# Altium schematic symbol library Passives.SchLib: 73 symbols
Pins are listed as number, name and electrical type; pins without a type are passive.

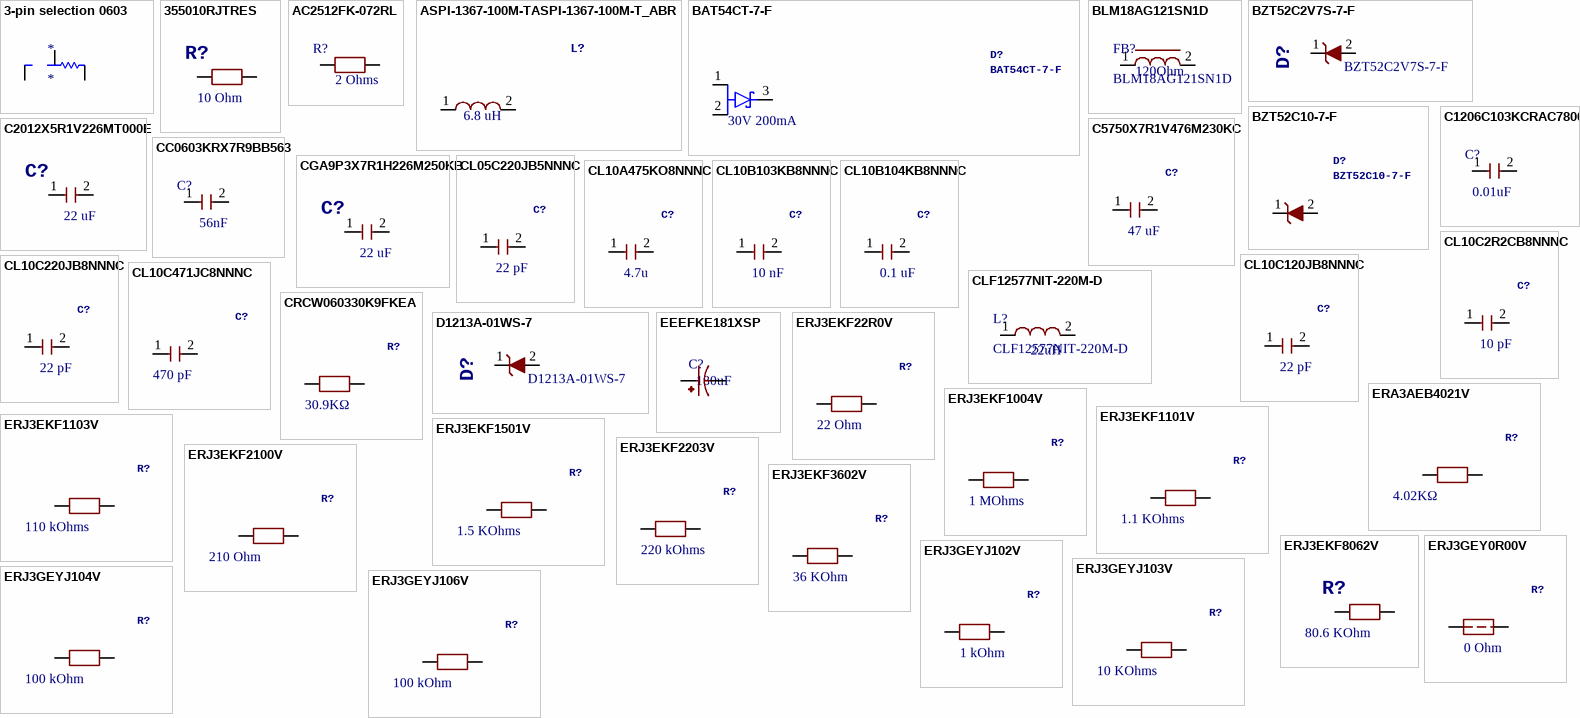
[diagram p0: symbols 3-pin selection 0603 to ERJ3GEYJ106V]

## 3-pin selection 0603
designator *
3-pin selection 0603
footprint 3-PIN SELECTION CIRCUIT
pins: 1, 2, 3

## 355010RJTRES
designator R?  value 10 Ohm  (hidden comment: 355010RJTRES)
Res 10Ohm 5W 4320; LibraryName: 2022-07-25_14-25-05_Library; PartNumber: 355010RJT; SupplierPartNumber: 355010RJT-ND; SuppliersPartNumber: *; Package: 4320; Link: https://www.digikey.ca/en/products/detail/te-connectivity-passive-product/355010RJT/9927238
footprint RES_4320
pins: 1, 2

## AC2512FK-072RL
designator R?  value 2 Ohms  (hidden comment: AC2512FK-072RL)
Res 2Ohms 1W 2512; Link: https://www.mouser.ca/ProductDetail/YAGEO/AC2512FK-072RL?qs=tggtontpCXMQxwZ82qzu9Q%3D%3D; Package: 2512; PartNumber: AC2512FK-072RL; SupplierPartNumber: 603-AC2512FK-072RL; SuppliersPartNumber: C728171
footprint RES_2512
pins: 1, 2

## ASPI-1367-100M-TASPI-1367-100M-T_ABR
designator L?, comment value 6.8 uH  (hidden comment: ASPI-1367-6R8M-T)
Ind 6.8uH; Mfr_Name: Abracon; GateName_1: A; SymbolName_1: ASPI-1367-100M-T; DeviceName: ASPI-1367-100M-T_ABR; LibraryName: 2022-08-03_18-57-08_Library; DeviceSetName: ASPI-1367-100M-T; Copyright: Copyright (C) 2022 Ultra Librarian. All rights reserved.; Manufacturer_Part_Number: ASPI-1367-100M-T; Link: https://www.digikey.ca/en/products/detail/abracon-llc/ASPI-1367-6R8M-T/2343319?s=N4IgTCBcDaIIIGUAKBJAtARgMwDYDsaOASgBwCyaAKiALoC%2BQA; Package: 5450; PartNumber: ASPI-1367-6R8M-T; SupplierPartNumber: ASPI-1367-6R8M-TCT-ND; SuppliersPartNumber: C187379
footprint IND_5450
pins: 1, 2

## BAT54CT-7-F
designator D?  value 30V 200mA
Diode Schottky 30V 200mA; Manufacturer_Name: Diodes Inc.; GateName_1: G$1; SymbolName_1: BAT54CT-7-F; LibraryName: BAT54CT-7-F; DeviceSetName: BAT54CT-7-F; Manufacturer_Part_Number: BAT54CT-7-F; Mouser_Part_Number: 621-BAT54CT-F; Mouser_Price-Stock: https://www.mouser.co.uk/ProductDetail/Diodes-Incorporated/BAT54CT-7-F?qs=eZWE0vXsHCE8vHna85fvBQ%3D%3D; Arrow_Part_Number: BAT54CT-7-F; Arrow_Price-Stock: https://www.arrow.com/en/products/bat54ct-7-f/diodes-incorporated?region=nac; Height: 0.9mm; Link: https://www.digikey.ca/en/products/detail/diodes-incorporated/BAT54CT-7-F/717703; Package: SOT-523; PartNumber: BAT54CT-7-F; SupplierPartNumber: BAT54CT-FDITR-ND; SuppliersPartNumber: C134407
footprint DIODE_SOT-523
pins: 1 A_1, 2 A_2, 3 K

## BLM18AG121SN1D
designator FB?  value 120Ohm
Ferrite Bead 120Ohms@100MHz 0603; Manufacturer: Murata; Package: 0603; PartNumber: BLM18AG121SN1D; SupplierNumber: 490-1011-2-ND; Link: https://www.digikey.ca/en/products/detail/murata-electronics/BLM18AG121SN1D/584222?s=N4IgTCBcDaIEIBkCyBGAHAQQOIrCgygHIoAiIAugL5A; SuppliersPartNumber: C76892
footprint FB_0603
pins: 1 (oc), 2 (oc)

## BZT52C2V7S-7-F
designator D?
Diode Zener 2V7; Manufacturer: Diodes Inc; Value: TVS 2V7; Link: https://www.digikey.ca/en/products/detail/diodes-incorporated/BZT52C2V7S-7-F/739746; Package: SOD-323; PartNumber: BZT52C2V7S-7-F; SupplierPartNumber: BZT52C2V7S-FDITR-ND; SuppliersPartNumber: C260926
footprint DIODE_DO-214AC
pins: 1, 2

## BZT52C10-7-F
designator D?
Diode Zener 10V 370mW; Manufacturer_Name: Diodes Inc.; SymbolName_1: BZT52C10-7-F; LibraryName: BZT52C10-7-F; DeviceSetName: BZT52C10-7-F; Manufacturer_Part_Number: BZT52C10-7-F; Mouser_Part_Number: 621-BZT52C10-F; Mouser_Price-Stock: https://www.mouser.co.uk/ProductDetail/Diodes-Incorporated/BZT52C10-7-F?qs=%2F0USrAtie8G0fxvqWmtHrQ%3D%3D; Link: https://www.digikey.ca/en/products/detail/diodes-incorporated/BZT52C10-7-F/717726; Value: 10V 370mW; Package: SOD-123; PartNumber: BZT52C10-7-F; SupplierPartNumber: BZT52C10-FDITR-ND; SuppliersPartNumber: C155227
footprint DIODE_SOD-123
pins: 1, 2

## C1206C103KCRAC7800
designator C?  value 0.01uF  (hidden comment: C1206C103KCRAC7800)
Cap Ceramic 0.01uF 500V 1206; MF: KEMET; MP: C1206C103KCRACTU; SnapEDA_Link: https://www.snapeda.com/parts/C1206C103KCRACTU/KEMET/view-part/1758860/?ref=snap; Availability: Unavailable; Price: None; Link: https://www.digikey.ca/en/products/detail/kemet/C1206C103KCRAC7800/721283; Package: 1206; PartNumber: C1206C103KCRAC7800; SupplierPartNumber: 399-C1206C103KCRAC7800TR-ND; SuppliersPartNumber: C561840
footprint CAP_1206
pins: 1, 2

## C2012X5R1V226MT000E
designator C?  value 22 uF  (hidden comment: C2012X5R1V226MT000E)
Cap Ceramic 22uF 50V 0805; Manufacturer_Part_Number: C2012X5R1V226MT000E; Link: https://www.digikey.ca/en/products/detail/tdk-corporation/C2012X5R1V226M125AC/3951664?s=N4IgTCBcDaIMJgAwEYwA0CsAlZA1MYAbALIAqiFAoiALoC%2BQA; Package: 0805; PartNumber: C2012X5R1V226MT000E; SupplierPartNumber: 445-14428-2-ND; SuppliersPartNumber: C338080
footprint CAP_0805
pins: 1, 2

## C5750X7R1V476M230KC
designator C?  value 47 uF  (hidden comment: C5750X7R1V476M230KC)
Cap Ceramic 47uF 35V 2220; Manufacturer_Name: TDK; GateName_1: G$1; SymbolName_1: C5750X7R1V476M230KC; LibraryName: C5750X7R1V476M230KC; DeviceSetName: C5750X7R1V476M230KC; Manufacturer_Part_Number: C5750X7R1V476M230KC; Mouser_Part_Number: 810-C5750X7R1V476M23; Mouser_Price-Stock: https://www.mouser.co.uk/ProductDetail/TDK/C5750X7R1V476M230KC?qs=rSMjJ%252B1ewcSIfs95ZgB3Sw%3D%3D; Height: 3.1mm; Link: https://www.digikey.ca/en/products/detail/tdk-corporation/C5750X7R1V476M230KC/15930210; Package: 2220; PartNumber: C5750X7R1V476M230KC; SupplierNumber: 445-C5750X7R1V476M230KCTR-ND; SuppliersPartNumber: *
footprint CAP_2220
pins: 1, 2

## CC0603KRX7R9BB563
designator C?  value 56nF  (hidden comment: CC0603KRX7R9BB563)
Cap Ceramic 56nF 16V 0402; Manufacturer: YAGEO; Package: 0603; Link: https://www.digikey.ca/en/products/detail/yageo/CC0603KRX7R9BB563/5883809?s=N4IgTCBcDaIMJwAwDZEGYDSAlAGgdiwE4AhYgVmTRAF0BfIA; PartNumber: CC0603KRX7R9BB563; SupplierPartNumber: 311-4100-2-ND; SuppliersPartNumber: C282072
footprint RES_0603
pins: 1, 2

## CGA9P3X7R1H226M250KB
designator C?  value 22 uF  (hidden comment: CGA9P3X7R1H226M250KB)
Cap Ceramic 22uF 50V 2220; Manufacturer_Part_Number: CGA9P3X7R1H226M250KB; Link: https://www.digikey.ca/en/products/detail/tdk-corporation/CGA9P3X7R1H226M250KB/10240627; Package: 2220; PartNumber: CGA9P3X7R1H226M250KB; SupplierPartNumber: 445-181650-2-ND; SuppliersPartNumber: C2180156
footprint CAP_2220
pins: 1, 2

## CL05C220JB5NNNC
designator C?  value 22 pF  (hidden comment: CL05C220JB5NNNC)
Cap Ceramic 22pF 50V 0402; Manufacturer_Name: Samsung Electro-Mechanics; Link: https://www.digikey.ca/en/products/detail/samsung-electro-mechanics/CL05C220JB5NNNC/3886774; Package: 0402; PartNumber: CL05C220JB5NNNC; SupplierPartNumber: 1276-1116-2-ND; SuppliersPartNumber: C70464
footprint CAP_0402
pins: 1, 2

## CL10A475KO8NNNC
designator C?  value 4.7u  (hidden comment: CL10A475KO8NNNC)
Cap Ceramic 4.7uF 16V 0603; Manufacturer_Name: Samsung Electro-Mechanics; Link: https://www.digikey.ca/en/products/detail/samsung-electro-mechanics/CL10A475KO8NNNC/3887442?s=N4IgTCBcDaIMIBkCMAGAggFgOwFYDSA8gBwByZcIAugL5A; Package: 0603; PartNumber: CL10A475KO8NNNC; SupplierNumber: 1276-1784-2-ND; SuppliersPartNumber: C19666
footprint CAP_0603
pins: 1, 2

## CL10B103KB8NNNC
designator C?  value 10 nF  (hidden comment: CL10B103KB8NNNC)
Cap Ceramic 10nF 50V 0603; Manufacturer_Name: Samsung Electro-Mechanics; Link: https://www.digikey.ca/en/products/detail/samsung-electro-mechanics/CL10B103KB8NNNC/3886667?s=N4IgTCBcDaIMIBkCMAGAQqgzAaTQDgDki4QBdAXyA; Package: 0603; PartNumber: CL10B103KB8NNNC; SupplierNumber: 1276-1009-2-ND; SuppliersPartNumber: C1589
footprint CAP_0603
pins: 1, 2

## CL10B104KB8NNNC
designator C?  value 0.1 uF  (hidden comment: CL10B104KB8NNNC)
Cap Ceramic 0.1uF 50V 0603; Manufacturer_Name: Samsung; Link: https://www.digikey.ca/en/products/detail/samsung-electro-mechanics/CL10B104KB8NNNC/3886658?s=N4IgTCBcDaIMIBkCMAGAQqgLAaTQDgDki4QBdAXyA; Package: 0603; PartNumber: CL10B104KB8NNNC; SupplierPartNumber: 1276-1000-2-ND; SuppliersPartNumber: C1591
footprint CAP_0603
pins: 1, 2

## CL10C2R2CB8NNNC
designator C?  value 10 pF  (hidden comment: CL10C2R2CB8NNNC)
Cap Ceramic 10pF 50V 0603; Manufacturer: Samsung; Link: https://www.digikey.ca/en/products/detail/samsung-electro-mechanics/CL10C2R2CB8NNNC/3886939?s=N4IgTCBcDaIMIBkCMAGOYBKY4CEAcAckXCALoC%2BQA; Package: 0603; PartNumber: CL10C2R2CB8NNNC; SupplierPartNumber: 1276-1281-2-ND; SuppliersPartNumber: C84711
footprint CAP_0603
pins: 1, 2

## CL10C120JB8NNNC
designator C?  value 22 pF  (hidden comment: CL10C120JB8NNNC)
Cap Ceramic 12pF 50V 0603; Manufacturer: Samsung Electro-Mechanics; Link: https://www.digikey.ca/en/products/detail/samsung-electro-mechanics/CL10C120JB8NNNC/3886912?s=N4IgTCBcDaIMIBkCMAGOSwoFICEAcAckXCALoC%2BQA; Package: 0603; PartNumber: CL10C120JB8NNNC; SupplierNumber: 1276-1254-2-ND; SuppliersPartNumber: C38523
footprint CAP_0603
pins: 1, 2

## CL10C220JB8NNNC
designator C?  value 22 pF  (hidden comment: CL10C220JB8NNNC)
Cap Ceramic 22pF 50V 0603; Manufacturer: Samsung Electro-Mechanics; Link: https://www.digikey.ca/en/products/detail/samsung-electro-mechanics/CL10C220JB8NNNC/3886681?s=N4IgTCBcDaIMIBkCMAGOYwoFICEAcAckXCALoC%2BQA; Package: 0603; PartNumber: CL10C220JB8NNNC; SupplierNumber: 1276-1023-2-ND; SuppliersPartNumber: C1653
footprint CAP_0603
pins: 1, 2

## CL10C471JC8NNNC
designator C?  value 470 pF  (hidden comment: CL10C471JC8NNNC)
Cap Ceramic 470pF 100V 0603; Manufacturer_Name: Samsung; Link: https://www.digikey.ca/en/products/detail/samsung-electro-mechanics/CL10C471JC8NNNC/3887963; Package: 0603; SupplierPartNumber: 1276-2305-2-ND; SuppliersPartNumber: C525649; PartNumber: CL10C471JC8NNNC
footprint CAP_0603
pins: 1, 2

## CLF12577NIT-220M-D
designator L?  value 22uH
Ind 22uH Shielded Drum Core 4.5A; Manufacturer: TDK; PartNumber: CLF12577NIT-220M-D; Package: NON STANDARD-2 TDK; Link: https://www.digikey.ca/en/products/detail/tdk-corporation/CLF12577NIT-220M-D/6236873?s=N4IgTCBcDaIMIBkBiBGMBWA7JgcgSQBUBaMMABgFkiAREAXQF8g; SupplierPartNumber: 445-174735-2-ND; SuppliersPartNumber: C138319
footprint IND_TDK_CLF12577NIT
pins: 1 (oc), 2 (oc)

## CRCW060330K9FKEA
designator R?  value 30.9KΩ  (hidden comment: CRCW060330K9FKEA)
Res 30.9KOhm 1/10W 0603; Manufacturer_Name: Vishay Intertech; Link: https://www.digikey.ca/en/products/detail/vishay-dale/CRCW060330K9FKEAHP/2222269; Package: 0603; SupplierPartNumber: 541-30.9KSTR-ND; SuppliersPartNumber: C844354; PartNumber: CRCW060330K9FKEA
footprint RES_0603
pins: 1, 2

## D1213A-01WS-7
designator D?
Diode TVS 3V3; Manufacturer: Diodes Inc; Value: TVS 3V3; Link: https://www.digikey.ca/en/products/detail/diodes-incorporated/D1213A-01WS-7/3340446?s=N4IgTCBcDaICIEYwIMwEEC0AGBB1AyhgOwgC6AvkA; Package: SOD-323; PartNumber: D1213A-01WS-7; SupplierPartNumber: D1213A-01WS-7DITR-ND; SuppliersPartNumber: C170167
footprint DIODE_DO-214AC
pins: 1, 2

## EEEFKE181XSP
designator C?, comment value 180uF  (hidden comment: EEE-FKE181XSP)
Cap Electrolytic 180uF SMD,D6.3xL7.7mm; Manufacturer: Panasonic; Package: SMD,D6.3xL7.7mm; PartNumber: EEE-FKE181XSP; SupplierNumber: P18956TR-ND; SuppliersPartNumber: C413657; Link: https://www.digikey.ca/en/products/detail/panasonic-electronic-components/EEE-FKE181XSP/5805038?s=N4IgTCBcDaIKIIGIGk4EYAcaAaBlACiALoC%2BQA
footprint CAP_EEEFKE181XSP
pins: 1, 2

## ERA3AEB4021V
designator R?  value 4.02KΩ  (hidden comment: ERA3AEB4021V)
Res 4.02KOhm 1/10W 0603; Manufacturer_Name: Panasonic; PartNumber: ERJ3GEYJ200V; Link: https://www.digikey.ca/en/products/detail/panasonic-electronic-components/ERA-3AEB4021V/2026802?s=N4IgTCBcDaIKICUCCBmJcBCAWADGAjAGogC6AvkA; Package: 0603; SupplierPartNumber: P4.02KDBTR-ND; SuppliersPartNumber: C491130
footprint RES_0603
pins: 1, 2

## ERJ3EKF22R0V
designator R?  value 22 Ohm  (hidden comment: ERJ3EKF22R0V)
Res 22Ohm 1/10W 0603; Manufacturer_Name: Panasonic; Link: https://www.digikey.ca/en/products/detail/panasonic-electronic-components/ERJ-3EKF22R0V/1746340?s=N4IgTCBcDaIKICUBSBmOBpAYmMCAMAaiALoC%2BQA; Package: 0603; SupplierPartNumber: P22.0HTR-ND; SuppliersPartNumber: C122707; PartNumber: ERJ3EKF22R0V
footprint RES_0603
pins: 1, 2

## ERJ3EKF1004V
designator R?  value 1 MOhms  (hidden comment: ERJ3EKF1004V)
Res 1MOhms 1/10W 0603; Link: https://www.digikey.ca/en/products/detail/panasonic-electronic-components/ERJ-3EKF1004V/196033?s=N4IgTCBcDaIKICUBSBmOBpAYgRgAy4BYA1EAXQF8g; Package: 0603; PartNumber: ERJ3EKF1004V; SupplierPartNumber: P1.00MHTR-ND; SuppliersPartNumber: C193390
footprint RES_0603
pins: 1, 2

## ERJ3EKF1101V
designator R?  value 1.1 KOhms  (hidden comment: ERJ3EKF1101V)
Res 1.1KOhms 1/10W 0603; Link: https://www.mouser.ca/ProductDetail/Panasonic/ERJ-3EKF1101V?qs=zp1CF8hTeCiNy6F%252B%252B5%252BYzw%3D%3D; Package: 0603; PartNumber: ERJ3EKF1101V; SupplierPartNumber: 667-ERJ-3EKF1101V; SuppliersPartNumber: C402882
footprint RES_0603
pins: 1, 2

## ERJ3EKF1103V
designator R?  value 110 kOhms  (hidden comment: ERJ3EKF1103V)
Res 110kOhms 1/10W 0603; LibraryName: ERJ3EKF1103V; Link: https://www.digikey.ca/en/products/detail/panasonic-electronic-components/ERJ-3EKF1103V/196091; Package: 0603; PartNumber: ERJ3EKF1103V; SupplierPartNumber: P110KHTR-ND; SuppliersPartNumber: C402884
footprint RES_0603
pins: 1, 2

## ERJ3EKF1501V
designator R?  value 1.5 KOhms  (hidden comment: ERJ3EKF1501V)
Res 1.5KOhms 1/10W 0603; Link: https://www.digikey.ca/en/products/detail/panasonic-electronic-components/ERJ-3EKF1501V/196052?s=N4IgTCBcDaIKICUBSBmOBpAYgRgKwAZsA1EAXQF8g; Package: 0603; PartNumber: ERJ3EKF1501V; SupplierPartNumber: P1.50KHTR-ND; SuppliersPartNumber: C193392
footprint RES_0603
pins: 1, 2

## ERJ3EKF2100V
designator R?  value 210 Ohm  (hidden comment: ERJ3EKF2100V)
Res 210Ohm 1/10W 0603; Manufacturer_Name: Panasonic; Link: https://www.digikey.ca/en/products/detail/panasonic-electronic-components/ERJ-3EKF2100V/196213?s=N4IgTCBcDaIKICUBSBmOBpAYmAjABjwDUQBdAXyA; Package: 0603; SupplierPartNumber: P210HTR-ND; SuppliersPartNumber: C403064; PartNumber: ERJ3EKF2100V
footprint RES_0603
pins: 1, 2

## ERJ3EKF2203V
designator R?  value 220 kOhms  (hidden comment: ERJ3EKF2203V)
Res 220kOhms 1/10W 0603; Link: https://www.digikey.ca/en/products/detail/panasonic-electronic-components/ERJ-3EKF2203V/1746338?s=N4IgTCBcDaIKICUBSBmOBpAYmMAGFAaiALoC%2BQA; Package: 0603; PartNumber: ERJ3EKF2203V; SupplierPartNumber: P220KHTR-ND; SuppliersPartNumber: C403074
footprint RES_0603
pins: 1, 2

## ERJ3EKF3602V
designator R?  value 36 KOhm  (hidden comment: ERJ3EKF3602V)
Res 36KOhm 1/10W 0603; Manufacturer_Name: Panasonic; Link: https://www.digikey.ca/en/products/detail/panasonic-electronic-components/ERJ-3EKF3602V/1746389?s=N4IgTCBcDaIKICUBSBmOBpAYigbABjADUQBdAXyA; Package: 0603; PartNumber: ERJ3EKF3602V; SupplierPartNumber: P36.0KHTR-ND; SuppliersPartNumber: C403181
footprint RES_0603
pins: 1, 2

## ERJ3EKF8062V
designator R?  value 80.6 KOhm  (hidden comment: ERJ3EKF8062V)
Res 80.6KOhm 0603; Link: https://www.digikey.ca/en/products/detail/panasonic-electronic-components/ERJ-3EKF8062V/196488; Package: 0603; SupplierNumber: P80.6KHDKR-ND; SupplierPartNumber: C403361; PartNumber: ERJ3EKF8062V
footprint RES_0603
pins: 1, 2

## ERJ3GEY0R00V
designator R?  value 0 Ohm  (hidden comment: ERJ3GEY0R00V)
Res 0Ohm 1/10W 0603; Link: https://www.digikey.ca/en/products/detail/panasonic-electronic-components/ERJ-3GEY0R00V/135656?s=N4IgTCBcDaIKICUBSBmA4nAmgBgd7AaiALoC%2BQA; Package: 0603; SupplierPartNumber: P0.0GTR-ND; SuppliersPartNumber: C122704; PartNumber: ERJ3GEY0R00V
footprint RES_0603
pins: 1, 2

## ERJ3GEYJ102V
designator R?  value 1 kOhm  (hidden comment: ERJ3GEYJ102V)
Res 1kOhm 1/10W 0603; Manufacturer_Name: Panasonic; SymbolName_1: ERJ3GEYJ102V; Link: https://www.digikey.ca/en/products/detail/panasonic-electronic-components/ERJ-3GEYJ102V/68472?s=N4IgTCBcDaIKICUBSBmA4nAmkgjABjADUQBdAXyA; Package: 0603; PartNumber: ERJ3GEYJ102V; SupplierPartNumber: P1.0KGCT-ND; SuppliersPartNumber: C180848
footprint RES_0603
pins: 1, 2

## ERJ3GEYJ103V
designator R?  value 10 KOhms  (hidden comment: ERJ3GEYJ103V)
Res 10KOhms 1/10W 0603; Link: https://www.mouser.ca/ProductDetail/Panasonic/ERJ-3GEYJ103V?qs=66DK8nO8gJBWgc%252B0VNNxzg%3D%3D; Package: 0603; PartNumber: ERJ3GEYJ103V; SupplierPartNumber: 667-ERJ-3GEYJ103V; SuppliersPartNumber: C169849
footprint RES_0603
pins: 1, 2

## ERJ3GEYJ104V
designator R?  value 100 kOhm  (hidden comment: ERJ3GEYJ104V)
Res 100kOhm 1/10W 0603; Manufacturer_Name: Panasonic; Link: https://www.digikey.ca/en/products/detail/panasonic-electronic-components/ERJ-3GEYJ104V/135832?s=N4IgTCBcDaIKICUBSBmA4nAmkgjABgBYA1EAXQF8g; Package: 0603; SupplierPartNumber: P100KGTR-ND; SuppliersPartNumber: C278633; PartNumber: ERJ3GEYJ104V
footprint RES_0603
pins: 1, 2

## ERJ3GEYJ106V
designator R?  value 100 kOhm  (hidden comment: ERJ3GEYJ106V)
Res 10MegaOhm 1/10W 0603; Manufacturer_Name: Panasonic; Link: https://www.digikey.ca/short/z0qzfdqr; Package: 0603; SupplierPartNumber: P10MGTR-ND; SuppliersPartNumber: C403412; PartNumber: ERJ3GEYJ106V
footprint RES_0603
pins: 1, 2

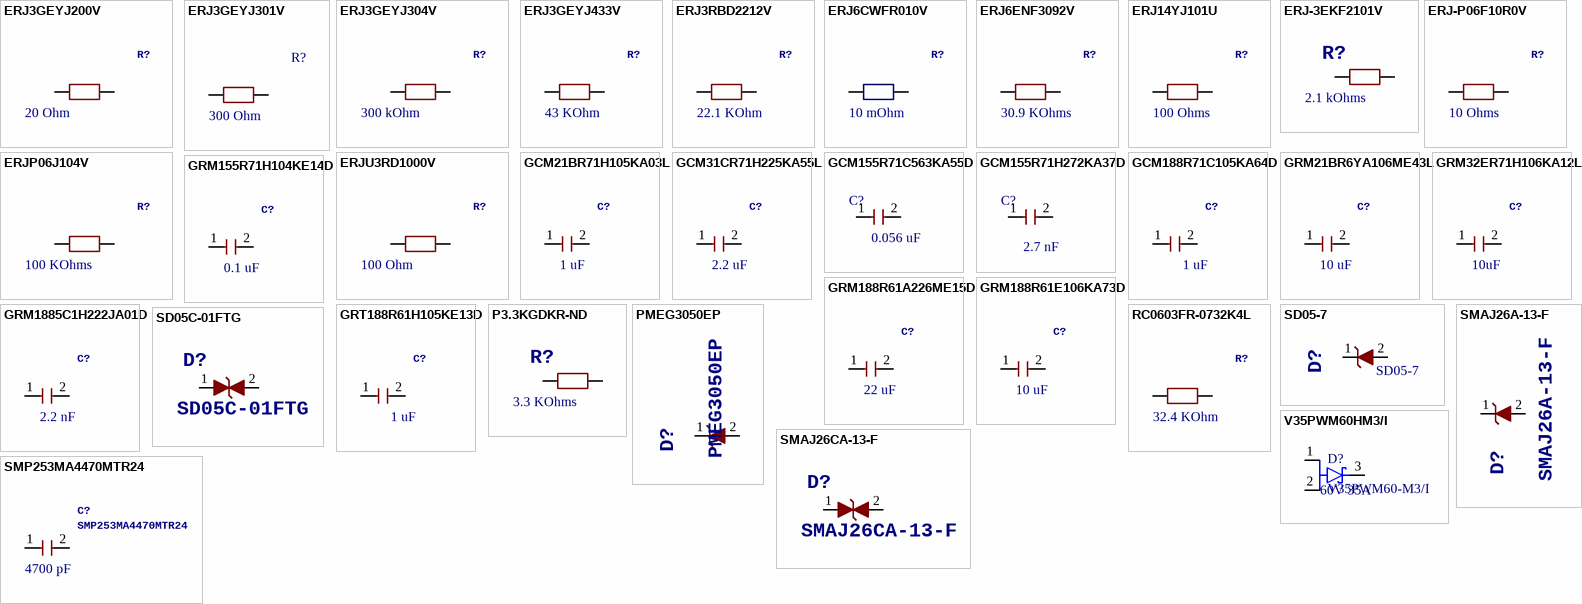
[diagram p1: symbols ERJ3GEYJ200V to V35PWM60HM3/I]

## ERJ3GEYJ200V
designator R?  value 20 Ohm  (hidden comment: ERJ3GEYJ200V)
Res 20Ohm 1/10W 0603; Manufacturer_Name: Panasonic; Link: https://www.digikey.ca/en/products/detail/panasonic-electronic-components/ERJ-3GEYJ200V/135597; Package: 0603; SupplierPartNumber: P20GTR-ND; SuppliersPartNumber: C403450; PartNumber: ERJ3GEYJ200V
footprint RES_0603
pins: 1, 2

## ERJ3GEYJ301V
designator R?, comment value 300 Ohm  (hidden comment: Res1)
Res 300Ohm 1/10W 0603; Manufacturer_Name: Panasonic; PartNumber: ERJ3GEYJ304V; LibraryName: ERJ3GEYJ301V; Link: https://www.digikey.ca/en/products/detail/panasonic-electronic-components/ERJ-3GEYJ301V/29175; Package: 0603; SupplierPartNumber: P300GTR-ND; SuppliersPartNumber: C403474
footprint RES_0603
pins: 1, 2

## ERJ3GEYJ304V
designator R?  value 300 kOhm  (hidden comment: ERJ3GEYJ304V)
Res 300kOhm 1/10W 0603; Manufacturer_Name: Panasonic; Link: https://www.digikey.ca/en/products/detail/panasonic-electronic-components/ERJ-3GEYJ304V/135883; Package: 0603; SupplierPartNumber: P300KGTR-ND; SuppliersPartNumber: C403476; PartNumber: ERJ3GEYJ304V
footprint RES_0603
pins: 1, 2

## ERJ3GEYJ433V
designator R?  value 43 KOhm  (hidden comment: ERJ3GEYJ433V)
Res 43KOhm 1/10W 0603; Manufacturer_Name: Panasonic; Height: 0.55mm; Link: https://www.digikey.ca/en/products/detail/panasonic-electronic-components/ERJ-3GEYJ433V/104624; Package: 0603; PartNumber: ERJ3GEYJ433V; SupplierPartNumber: P43KGTR-ND; SuppliersPartNumber: C403499
footprint RES_0603
pins: 1, 2

## ERJ3RBD2212V
designator R?  value 22.1 KOhm  (hidden comment: ERJ3RBD2212V)
Res 22.1KOhm 1/10W 0603; Manufacturer_Name: Panasonic; SymbolName_1: ERJ3RBD2212V; Manufacturer_Part_Number: ERJ3RBD2212V; Link: https://www.mouser.ca/ProductDetail/Panasonic/ERJ-3RBD2212V?qs=Xx7DtTQCah8CZLydlhyKZw%3D%3D; Package: 0603; PartNumber: ERJ3RBD2212V; SupplierPartNumber: 667-ERJ-3RBD2212V; SuppliersPartNumber: C416683
footprint RES_0603
pins: 1, 2

## ERJ6CWFR010V
designator R?  value 10 mOhm  (hidden comment: ERJ6CWFR010V)
Res 10mOhm 1/2W Sense Resistor 0805; Link: https://www.digikey.ca/en/products/detail/panasonic-electronic-components/ERJ-6CWFR010V/6004279?s=N4IgTCBcDaIKICUBSA2AwgdQGIIAwEZcA1EAXQF8g; Package: 0805; PartNumber: ERJ6CWFR010V; SupplierPartNumber: P19196CT-ND; SuppliersPartNumber: C236283
footprint RES_0805
pins: 1, 2

## ERJ6ENF3092V
designator R?  value 30.9 KOhms  (hidden comment: ERJ6ENF3092V)
Res 30.9KOhms 1/8W 0603; Link: https://www.digikey.ca/en/products/detail/panasonic-electronic-components/ERJ-6ENF3092V/111570?s=N4IgTCBcDaIKICUBSA2OA5AYgZgAwE4wA1EAXQF8g; Package: 0603; PartNumber: ERJ6ENF3092V; SupplierPartNumber: P30.9KCTR-ND; SuppliersPartNumber: C416839
footprint RES_0603
pins: 1, 2

## ERJ14YJ101U
designator R?  value 100 Ohms  (hidden comment: ERJ14YJ101U)
Res 100Ohms 1/2W 1210; Link: https://www.mouser.ca/ProductDetail/Panasonic/ERJ-14YJ101U?qs=x3mz4GabKurDxz6DNLpisQ%3D%3D; Package: 1210; PartNumber: ERJ14YJ101U; SupplierPartNumber: 667-ERJ-14YJ101U; SuppliersPartNumber: C242156
footprint RES_1210
pins: 1, 2

## ERJ-3EKF2101V
designator R?  value 2.1 kOhms  (hidden comment: ERJ-3EKF2101V)
Res 2.1KOhms 1/10W 0603; Link: https://www.digikey.ca/en/products/detail/panasonic-electronic-components/ERJ-3EKF2101V/196185; Package: 0603; PartNumber: ERJ-3EKF2101V; SupplierNumber: P2.10KHDKR-ND; SuppliersPartNumber: C403065
footprint RES_0603
pins: 1, 2

## ERJ-P06F10R0V
designator R?  value 10 Ohms  (hidden comment: ERJ-P06F10R0V)
Res 10Ohms 1/2W 0805; Manufacturer_Name: Panasonic; PartNumber: ERJP06F10R0V; Link: https://www.digikey.ca/en/products/detail/panasonic-electronic-components/ERJ-P06F10R0V/5722444?s=N4IgTCBcDaIKICUBSAFADANgGIEY0LQDUQBdAXyA; Package: 0805; SupplierPartNumber: P18937DKR-ND; SuppliersPartNumber: C441969
footprint RES_0805
pins: 1, 2

## ERJP06J104V
designator R?  value 100 KOhms  (hidden comment: ERJP06J104V)
Res 100KOhms 1/2W 0805; Link: https://www.digikey.ca/en/products/detail/panasonic-electronic-components/ERJ-P06J104V/525199?s=N4IgTCBcDaIKICUBSAFADANiQRjQFgDUQBdAXyA; Package: 0805; PartNumber: ERJP06J104V; SupplierPartNumber: P100KADTR-ND; SuppliersPartNumber: C441960
footprint RES_0805
pins: 1, 2

## ERJU3RD1000V
designator R?  value 100 Ohm  (hidden comment: ERJU3RD1000V)
Res 100Ohm 1/10W 0603; Manufacturer_Name: Panasonic; Link: https://www.digikey.ca/en/products/detail/panasonic-electronic-components/ERJ-U3RD1000V/12549636?s=N4IgTCBcDaIKICUBSBVAzAgIgRgAz4DUQBdAXyA; Package: 0603; SupplierPartNumber: 10-ERJ-U3RD1000VTR-ND; SuppliersPartNumber: C491168; PartNumber: ERJU3RD1000V
footprint RES_0603
pins: 1, 2

## GCM21BR71H105KA03L
designator C?  value 1 uF  (hidden comment: GCM21BR71H105KA03L)
Cap Ceramic 1uF 50V 0805; Manufacturer_Name: Murata Electronics; GateName_1: G$1; SymbolName_1: GCM21BR71H105KA03L; LibraryName: GCM21BR71H105KA03L; DeviceSetName: GCM21BR71H105KA03L; Manufacturer_Part_Number: GCM21BR71H105KA03L; Mouser_Part_Number: 81-GCM21BR71H105KA3L; Mouser_Price-Stock: https://www.mouser.co.uk/ProductDetail/Murata-Electronics/GCM21BR71H105KA03L?qs=74rrZF77WIzs3UJkpPZdKw%3D%3D; Arrow_Part_Number: GCM21BR71H105KA03L; Arrow_Price-Stock: https://www.arrow.com/en/products/gcm21br71h105ka03l/murata-manufacturing?region=nac; Height: 1.4mm; Link: https://www.digikey.ca/en/products/detail/murata-electronics/GCM21BR71H105KA03L/4903984?s=N4IgTCBcDaIOIGECyYCMAhASgdlQCVQAYBWAaQEFCBmAGRAF0BfIA; Package: 0805; PartNumber: GCM21BR71H105KA03L; SupplierPartNumber: 490-10675-2-ND; SuppliersPartNumber: C126592
footprint CAP_0805
pins: 1, 2

## GCM31CR71H225KA55L
designator C?, comment value 2.2 uF  (hidden comment: GRM188R6YA225KA12D)
Cap Ceramic 2.2uF 35V 0603; Manufacturer: Murata Electronics; Link: https://www.digikey.ca/en/products/detail/murata-electronics/GRM188R6YA225KA12D/3900462?s=N4IgTCBcDaIOICUCyBGAHGhA2AmgQTDAFYBpPFMAERAF0BfIA; Package: 0603; PartNumber: GRM188R6YA225KA12D; SupplierPartNumber: 490-7204-2-ND; SuppliersPartNumber: C86017
footprint CAP_0603
pins: 1, 2

## GCM155R71C563KA55D
designator C?  value 0.056 uF  (hidden comment: GCM155R71C563KA55D)
Cap Ceramic 0.056uF 16V 0402; Package: 0402; Link: https://www.digikey.ca/en/products/detail/murata-electronics/GCM155R71C563KA55D/10690999?s=N4IgTCBcDaIOIGECyBGArGgSgdhQtAbAMwDSAghgCIgC6AvkA; PartNumber: GCM155R71C563KA55D; SupplierPartNumber: 490-GCM155R71C563KA55DCT-ND; SuppliersPartNumber: C161165
footprint CAP_0402
pins: 1, 2

## GCM155R71H272KA37D
designator C?  value 2.7 nF  (hidden comment: GCM155R71H272KA37D)
Cap Ceramic 2.7nF 50V 0402; Package: 0402 (1005 Metric); Price: None; MP: GCM155R71H272KA37D; Availability: Unavailable; Link: https://www.digikey.ca/en/products/detail/murata-electronics/GCM155R71H272KA37D/7362937; PartNumber: GCM155R71H272KA37D; SupplierNumber: 490-GCM155R71H272KA37DTR-ND; SuppliersPartNumber: C161168
footprint CAP_0402
pins: 1, 2

## GCM188R71C105KA64D
designator C?, comment value 1 uF  (hidden comment: GCM188R71C105KA64)
Cap Ceramic 1uF 16V 0603; Manufacturer_Name: Murata Electronics; GateName_1: G$1; SymbolName_1: GCM188R71C105KA64D; LibraryName: GCM188R71C105KA64D; DeviceSetName: GCM188R71C105KA64D; Manufacturer_Part_Number: GCM188R71C105KA64D; Mouser_Part_Number: 81-GCM188R71C105K64D; Mouser_Price-Stock: https://www.mouser.co.uk/ProductDetail/Murata-Electronics/GCM188R71C105KA64D?qs=bQrJpfqjX%252BKtVgLYIBGvIg%3D%3D; Arrow_Part_Number: GCM188R71C105KA64D; Arrow_Price-Stock: https://www.arrow.com/en/products/gcm188r71c105ka64d/murata-manufacturing?region=nac; Height: 0.9mm; Link: https://www.digikey.ca/en/products/detail/murata-electronics/GCM188R71C105KA64D/1979250; Package: 0603; PartNumber: GCM188R71C105KA64; SupplierPartNumber: 490-5241-2-ND; SuppliersPartNumber: C161212
footprint CAP_0603
pins: 1, 2

## GRM21BR6YA106ME43L
designator C?  value 10 uF  (hidden comment: GRM21BR6YA106ME43L)
Cap Ceramic 10uF 35V 0805; Manufacturer_Name: Murata Electronics; GateName_1: G$1; SymbolName_1: GRM21BR6YA106ME43L; LibraryName: GRM21BR6YA106ME43L; DeviceSetName: GRM21BR6YA106ME43L; Manufacturer_Part_Number: GRM21BR6YA106ME43L; Mouser_Part_Number: 81-GRM21BR6YA106ME3L; Mouser_Price-Stock: https://www.mouser.co.uk/ProductDetail/Murata-Electronics/GRM21BR6YA106ME43L?qs=K0Sa7bCb58L8Cutg5cHuEA%3D%3D; Arrow_Part_Number: GRM21BR6YA106ME43L; Arrow_Price-Stock: https://www.arrow.com/en/products/grm21br6ya106me43l/murata-manufacturing?region=nac; Height: 1.45mm; Link: https://www.digikey.ca/en/products/detail/murata-electronics/GRM21BR6YA106ME43L/5027599?s=N4IgTCBcDaIAQHEBKBZMBGAQkgbATQEF0AGHFAUQBYBmAGRAF0BfIA; Package: 0805; PartNumber: GRM21BR6YA106ME43L; SupplierPartNumber: 490-10515-1-ND; SuppliersPartNumber: C361063
footprint CAP_0805
pins: 1, 2

## GRM32ER71H106KA12L
designator C?  value 10uF  (hidden comment: GRM32ER71H106KA12L)
Cap Ceramic 10uF 50V 1210; Manufacturer_Name: Murata Electronics; GateName_1: G$1; SymbolName_1: GRM32ER71H106KA12L; LibraryName: GRM32ER71H106KA12L; DeviceSetName: GRM32ER71H106KA12L; Manufacturer_Part_Number: GRM32ER71H106KA12L; Mouser_Part_Number: 81-GRM32ER71H106KA2L; Mouser_Price-Stock: https://www.mouser.co.uk/ProductDetail/Murata-Electronics/GRM32ER71H106KA12L?qs=6pxx44s1bjkjdm74o%2FrKhg%3D%3D; Arrow_Part_Number: GRM32ER71H106KA12L; Arrow_Price-Stock: https://www.arrow.com/en/products/grm32er71h106ka12l/murata-manufacturing; Height: 2.7mm; Link: https://www.digikey.ca/en/products/detail/murata-electronics/GRM32ER71H106KA12L/2548481?s=N4IgTCBcDaIOICUCyBmMBRBB2AjACRwAYA2AaQEEcwAZEAXQF8g; Package: 1210; PartNumber: GRM32ER71H106KA12L; SupplierPartNumber: 490-6544-1-ND; SuppliersPartNumber: C77102
footprint CAP_1210
pins: 1, 2

## GRM155R71H104KE14D
designator C?  value 0.1 uF  (hidden comment: GRM155R71H104KE14D)
Cap Ceramic 0.1uF 50V 0402; Manufacturer_Name: Murata Electronics; GateName_1: G$1; SymbolName_1: GRM155R71H104KE14D; LibraryName: GRM155R71H104KE14D; DeviceSetName: GRM155R71H104KE14D; Manufacturer_Part_Number: GRM155R71H104KE14D; Mouser_Part_Number: 81-GRM155R71H104KE4D; Mouser_Price-Stock: https://www.mouser.co.uk/ProductDetail/Murata-Electronics/GRM155R71H104KE14D?qs=2UZY3JfgLCy9gG9icKV9Yg%3D%3D; Arrow_Part_Number: GRM155R71H104KE14D; Arrow_Price-Stock: https://www.arrow.com/en/products/grm155r71h104ke14d/murata-manufacturing?region=nac; Height: 0.55mm; Link: https://www.mouser.ca/ProductDetail/Murata-Electronics/GRM155R71H104KE14D?qs=2UZY3JfgLCy9gG9icKV9Yg%3D%3D; Package: 0402; PartNumber: GRM155R71H104KE14D; SupplierPartNumber: 81-GRM155R71H104KE4D; SuppliersPartNumber: C77020
footprint CAP_0402
pins: 1, 2

## GRM188R61A226ME15D
designator C?  value 22 uF  (hidden comment: GRM188R61A226ME15D)
Cap Ceramic 22uF 10V 0603; Manufacturer_Name: Samsung Electro-Mechanics; Link: https://www.digikey.ca/en/products/detail/murata-electronics/GRM188R61A226ME15D/5027561?s=N4IgTCBcDaIOICUCyBGAHGhA2FBBMYWSAoigKwAiIAugL5A; Package: 0603; PartNumber: GRM188R61A226ME15D; SupplierNumber: 490-10476-2-ND; SuppliersPartNumber: C84419
footprint CAP_0603
pins: 1, 2

## GRM188R61E106KA73D
designator C?  value 10 uF  (hidden comment: GRM188R61E106KA73D)
Cap Ceramic 10uF 35V 0603; Manufacturer_Name: Murata Electronics; Link: https://www.digikey.ca/en/products/detail/murata-electronics/GRM188R61E106KA73D/9867922?s=N4IgTCBcDaIOICUCyBGAHGhA2FBRFADFgNICCA7AMwAiIAugL5A; Package: 0603; PartNumber: GRM188R61E106KA73D; SupplierPartNumber: 490-18214-2-ND; SuppliersPartNumber: C344022
footprint CAP_0603
pins: 1, 2

## GRM1885C1H222JA01D
designator C?  value 2.2 nF  (hidden comment: GRM1885C1H222JA01D)
Cap Ceramic 2.2nF 50V 0603; Manufacturer: Murata Electronics; Link: https://www.digikey.ca/en/products/detail/murata-electronics/GRM1885C1H222JA01D/586951?s=N4IgTCBcDaIOICUCyBGAHGgrAYRQCTEICkBBABhQBEQBdAXyA; Package: 0603; PartNumber: GRM1885C1H222JA01D; SupplierPartNumber: 490-1459-2-ND; SuppliersPartNumber: C77033
footprint CAP_0603
pins: 1, 2

## GRT188R61H105KE13D
designator C?  value 1 uF  (hidden comment: GRT188R61H105KE13D)
Cap Ceramic 1uF 50V 0603; Manufacturer: Murata Electronics; PartNumber: GCM188R71C105KA64; Link: https://www.digikey.ca/en/products/detail/murata-electronics/GRT188R61H105KE13D/5416752?s=N4IgTCBcDaIOICUAqBGAHGhA2FAJFADAKwDSAoigMwAiIAugL5A; Package: 0603; SupplierPartNumber: 490-12330-2-ND; SuppliersPartNumber: C126631
footprint CAP_0603
pins: 1, 2

## P3.3KGDKR-ND
designator R?  value 3.3 KOhms  (hidden comment: P3.3KGDKR-ND)
Res 3.3KOhms 1/10W 0603; PartNumber: ERJ-3GEYJ332V; SymbolName_1: RES; Link: https://www.digikey.ca/en/products/detail/panasonic-electronic-components/ERJ-3GEYJ332V/135886?s=N4IgTCBcDaIKICUBSBaAzAcTgTSWtYAaiALoC%2BQA; Package: 0603; SupplierNumber: P3.3KGDKR-ND; SuppliersPartNumber: C403480
footprint RES_0603
pins: 1, 2

## PMEG3050EP
designator D?
Diode FastRecovery 30V SOD-128; Mfr_Name: Nexperia; Value: FastRecovery 30V; Link: https://www.digikey.ca/en/products/detail/nexperia-usa-inc/PMEG3050EP-115/2228695; Package: SOD-128; PartNumber: PMEG3050EP; SupplierPartNumber: 1727-5317-2-ND; SuppliersPartNumber: C134975
footprint DIODE_SOD-128
pins: 1, 2

## RC0603FR-0732K4L
designator R?  value 32.4 KOhm  (hidden comment: RC0603FR-0732K4L)
Res 32.4KOhm 1/10W 0603; Link: https://www.digikey.ca/en/products/detail/RC0603FR-0732K4L/311-32.4KHRCT-ND/730102?curr=cad&utm_campaign=buynow&utm_medium=aggregator&utm_source=octopart; Package: 0603; PartNumber: RC0603FR-0732K4L; SupplierPartNumber: 311-32.4KHRCT-ND; SuppliersPartNumber: C309561
footprint RES_0603
pins: 1, 2

## SD05-7
designator D?
Diode TVS 5V; Mfr_Name: Diodes Inc; Value: TVS 5V; Link: https://www.digikey.ca/en/products/detail/diodes-incorporated/SD05-7/2052792; Package: SOD-323; PartNumber: SD05-7; SupplierPartNumber: SD05DITR-ND; SuppliersPartNumber: C460454
footprint DIODE_DO-214AC
pins: 1, 2

## SD05C-01FTG
designator D?
Diode TVS Bidirectional Standoff_5V Clamp _8V; Manufacturer: Littelfuse; Value: Standoff 5V, Clamp 16V; Link: https://www.digikey.ca/en/products/detail/littelfuse-inc/SD05C-01FTG/4251952?s=N4IgTCBcDaIMoBEAMBWAwgWiQRgGIBUBxEAXQF8g; Package: DO-214AC; PartNumber: SD05C-01FTG; SupplierNumber: F6191TR-ND; SuppliersPartNumber: C118264
footprint DIODE_SOD-323
pins: 1, 2

## SMAJ26A-13-F
designator D?
Diode TVS 26V; Mfr_Name: Diodes Inc; GateName_1: A; DeviceName: SMA_DIO; SymbolName_1: DIODE; LibraryName: 2022-09-06_21-11-13_Library; DeviceSetName: SMAJ26A-13-F; Copyright: Copyright (C) 2022 Ultra Librarian. All rights reserved.; Manufacturer_Part_Number: SMAJ26A-13-F; Digi-Key_Part_Number_1: SMAJ26A-FDICT-ND; Digi-Key_Part_Number_2: SMAJ26A-FDIDKR-ND; Digi-Key_Part_Number_3: SMAJ26A-FDITR-ND; Link: https://www.digikey.ca/en/products/detail/diodes-incorporated/SMAJ26A-13-F/806555?s=N4IgTCBcDaIMoFkCCApMA2JBaAjAZiwDEQBdAXyA; Package: DO-214AC; PartNumber: SMAJ26A-13-F; SupplierPartNumber: SMAJ26A-FDITR-ND; SuppliersPartNumber: C134975
footprint DIODE_DO-214AC
pins: 1, 2

## SMAJ26CA-13-F
designator D?
Diode TVS Bidirectional 26V; Mfr_Name: Diodes Inc; Manufacturer_Part_Number: SMAJ26A-13-F; Value: 26V; Link: https://www.digikey.ca/en/products/detail/diodes-incorporated/SMAJ26A-13-F/806555?s=N4IgTCBcDaIMoFkCCApMA2JBaAYgEQEkAVAJSwDk8QBdAXyA; Package: DO-214AC; PartNumber: SMAJ26CA-13-F; SupplierPartNumber: SMAJ26CA-FDITR-ND; SuppliersPartNumber: C134976
footprint DIODE_DO-214AC
pins: 1, 2

## SMP253MA4470MTR24
designator C?  value 4700 pF
Cap Film 4700pF 250V 5045; Manufacturer_Name: Kemet; GateName_1: G$1; SymbolName_1: SMP253MA4470MTR24; LibraryName: SMP253MA4470MTR24; DeviceSetName: SMP253MA4470MTR24; Manufacturer_Part_Number: SMP253MA4470MTR24; Mouser_Part_Number: 80-SMP253MA4470MTR24; Mouser_Price-Stock: https://www.mouser.co.uk/ProductDetail/KEMET/SMP253MA4470MTR24?qs=ffqAhwBssBuqiHWB7iiUew%3D%3D; Arrow_Part_Number: SMP253MA4470MTR24; Arrow_Price-Stock: https://www.arrow.com/en/products/smp253ma4470mtr24/kemet-corporation; Height: 6.7mm; Link: https://www.digikey.ca/en/products/detail/kemet/SMP253MA4470MTR24/5177362; Package: 5045; PartNumber: SMP253MA4470MTR24; SupplierPartNumber: 399-11872-2-ND; SuppliersPartNumber: *
footprint CAP_5045
pins: 1, 2

## V35PWM60HM3/I
designator D?, comment V35PWM60-M3/I  value 60V 35A
Diode Schottky 60V 35A; MF: Vishay Semiconductor Diodes Division; MP: V35PWM60HM3/I; Check_prices: https://www.snapeda.com/parts/V35PWM60HM3/I/Vishay+Semiconductor+Diodes+Division/view-part/?ref=eda; Package: TO-252-3; Price: None; Purchase-URL: https://pricing.snapeda.com/search/part/V35PWM60HM3/I/?ref=eda; Availability: In Stock; SnapEDA_Link: https://www.snapeda.com/parts/V35PWM60HM3/I/Vishay+Semiconductor+Diodes+Division/view-part/?ref=snap; Link: https://www.digikey.ca/en/products/detail/vishay-general-semiconductor-diodes-division/V35PWM60-M3-I/7390828?s=N4IgTCBcDaIGoGYCsAFA6gWQGwAYC0GCA9AJIgC6AvkA; PartNumber: V35PWM60-M3/I; SupplierNumber: V35PWM60-M3/IGITR-ND; SuppliersPartNumber: *
footprint DIODE_TO-252AE
pins: 1 A_1, 2 A_2, 3 K